# Altium integrated library pulse.IntLib: 1 symbol
Pins are listed as number, name and electrical type; pins without a type are passive.

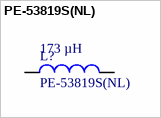
[diagram p0: symbol PE-53819S(NL)]

## PE-53819S(NL)
designator L?  value 173 µH
Fixed Inductors SIMPLE SWITCHER IND
footprint LCI-37
pins: 1, 2